# Altium integrated library TI Communication Transceiver.IntLib: 1 symbol
Pins are listed as number, name and electrical type; pins without a type are passive.

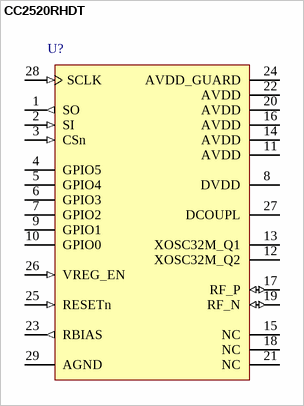
[diagram p0: symbol CC2520RHDT]

## CC2520RHDT
designator U?
2.4 GHz IEEE 802.15.4 RF Transceiver; Published: 29-May-2009; DatasheetVersion: Dec-2007; PackageVersion: Jul-2007; PackageReference: RHD28; Publisher: Altium Limited; PackageDescription: 28-Pin Plastic Quad Flat No-Lead 0.5 mm Pitch; Code_JEDEC: MO-220; ComponentLink1Description: Datasheet; ComponentLink1URL: http://focus.ti.com/lit/ds/symlink/cc2520.pdf
footprint RHD28_N (QFN, 28-Leads, Body 5x5mm, Pitch 0.5mm, IPC Medium Density)
footprint RHD28_L (QFN, 28-Leads, Body 5x5mm, Pitch 0.5mm, IPC High Density)
footprint RHD28_M (QFN, 28-Leads, Body 5x5mm, Pitch 0.5mm, IPC Low Density)
pins: 1 SO (out), 2 SI (in), 3 CSn (in), 4 GPIO5 (power), 5 GPIO4 (power), 6 GPIO3 (power), 7 GPIO2 (power), 8 DVDD (power), 9 GPIO1 (power), 10 GPIO0 (power), 11 AVDD (power), 12 XOSC32M_Q2, 13 XOSC32M_Q1, 14 AVDD (power), 15 NC, 16 AVDD (power), 17 RF_P (io), 18 NC, 19 RF_N (io), 20 AVDD (power), 21 NC, 22 AVDD (power), 23 RBIAS (out), 24 AVDD_GUARD (power), 25 RESETn (in), 26 VREG_EN (in), 27 DCOUPL (power), 28 SCLK (in), 29 AGND (power)